# Altium footprint library PANLED.PcbLib: 1 footprints
Each footprint in its own frame and in the unit in brackets; x right, y up, seen from the top. Pads: shape width x height; smd on the part's side, far side on the other; paste and mask are expansions set on the pad; w line width, h text height; cw(c..) or ccw(c..) is an arc to the next point about the centre after c.
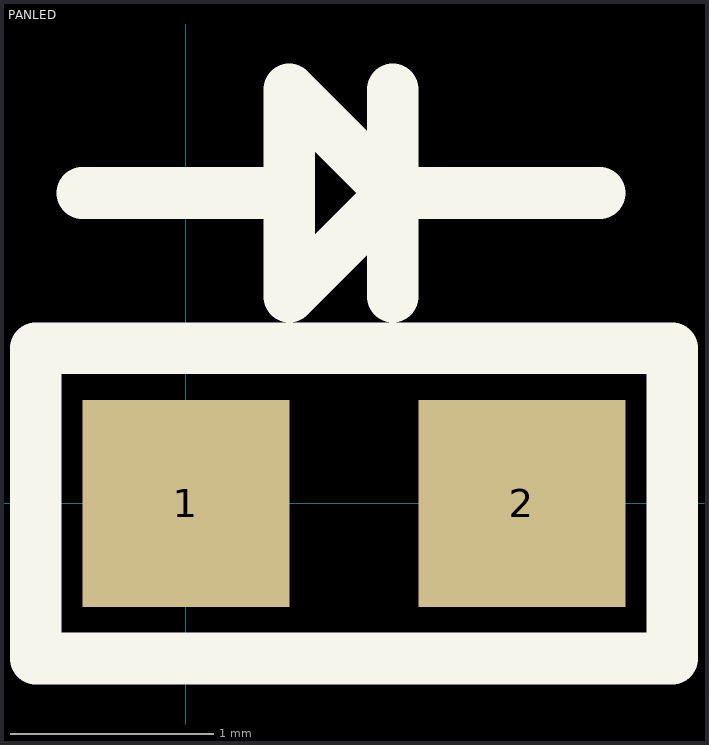
[diagram p0: the footprint, top view; thin cyan lines are the x and y axes]

## PANLED [mil]
pads (2):
  rect 40x40 smd: 1(0,0) 2(64.96,0)
TopOverlay:
  lines w10: -29,28 -27,30 ; -20,60 20,60 ; 40,40 40,60 ; 40,80 40,60 ; 80,60 60,60 40,60 ; 20,60 20,40 40,60 ; 20,60 20,80 40,60 ; -29,-30 -29,30 0,30 60,30 94,30 94,-21 94,-30 60,-30 0,-30 -29,-30
Mechanical4:
  text ".031" at 0,0 h1
  text ".031" at 64.96,0 h1
3D body: height 27.17, standoff 0.6, extent 1.73,-14.94 66.69,13.61